# Altium schematic symbol library LM5110_2.SchLib: 1 symbol
Pins are listed as number, name and electrical type; pins without a type are passive.

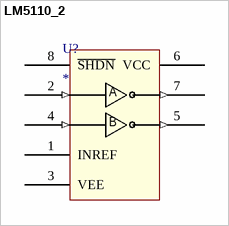
[diagram p0: symbol LM5110_2]

## LM5110_2
designator U?
pins: 1 INREF, 2 INA (in), 3 VEE (power), 4 INB (in), 5 OUTB (out), 6 VCC (power), 7 OUTA (out), 8 ~{SHDN}
text: A; B